# Altium schematic symbol library MYS-AltiumLib.SchLib: 59 symbols
Pins are listed as number, name and electrical type; pins without a type are passive.

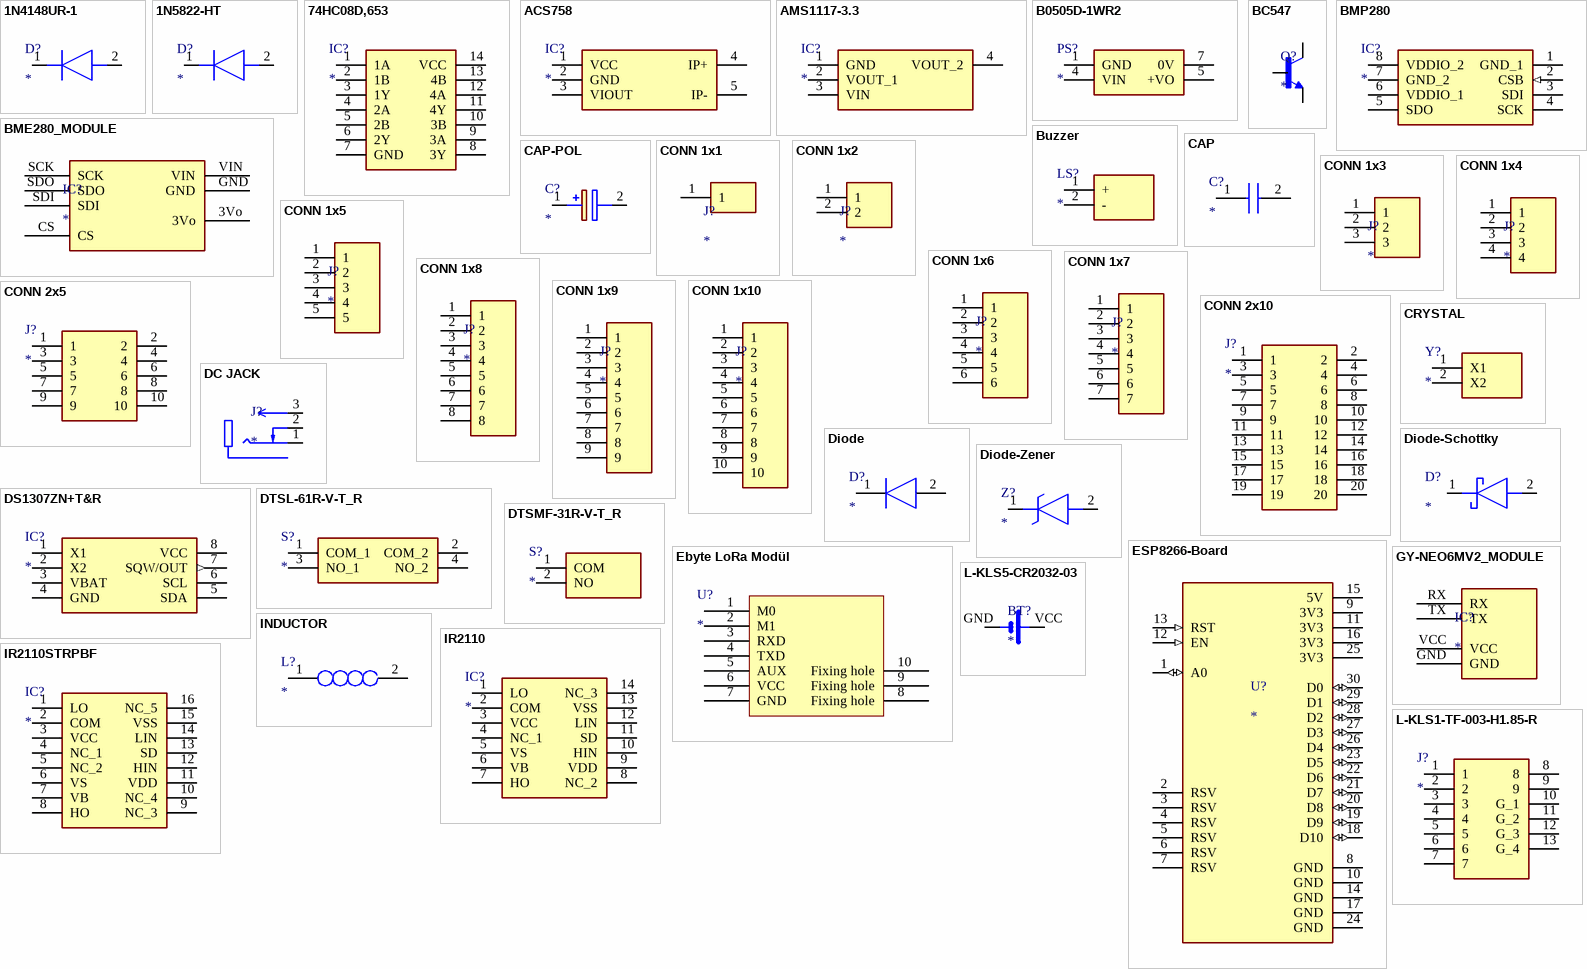
[diagram p0: symbols 1N4148UR-1 to L-KLS5-CR2032-03]

## 1N4148UR-1
designator D?
Diode; Manufacturer_Name: Microsemi Corporation; Manufacturer_Part_Number: 1N4148UR-1; Datasheet Link: https://www.microsemi.com/document-portal/doc_download/125215-lds-0281-1-datasheet; Height: 1.7mm; Mouser Part Number: 494-1N4148UR-1; Mouser Price/Stock: https://www.mouser.co.uk/ProductDetail/Microchip-Microsemi/1N4148UR-1/?qs=%252BRKXB2WKlSdXiNZTe6I9fg%3D%3D; Arrow Part Number: 1N4148UR-1; Arrow Price/Stock: https://www.arrow.com/en/products/1n4148ur-1/microsemi
footprint 1N4148UR1
pins: 1 K, 2 A

## 1N5822-HT
designator D?
Diode; Manufacturer_Name: HY Electronic Corp; Manufacturer_Part_Number: 1N5822; Datasheet Link: https://docs.rs-online.com/7b99/0900766b814bbef7.pdf
footprint DIOAD3020W130L900D530
pins: 1 K, 2 A

## 74HC08D,653
designator IC?
Integrated Circuit; Manufacturer_Name: NXP; Manufacturer_Part_Number: 74HC08D,653; Description: IC GATE AND 4CH 2-INP 14-SO; Datasheet Link: https://www.mouser.co.za/datasheet/2/916/74HC_HCT08-2937369.pdf; Height: 1.75mm
footprint SOIC127P600X175-14N
pins: 1 1A, 2 1B, 3 1Y, 4 2A, 5 2B, 6 2Y, 7 GND, 8 3Y, 9 3A, 10 3B, 11 4Y, 12 4A, 13 4B, 14 VCC

## ACS758
designator IC?
Integrated Circuit
footprint ACS758
pins: 1 VCC, 2 GND, 3 VIOUT, 4 IP+, 5 IP-

## AMS1117-3.3
designator IC?
Integrated Circuit; Manufacturer_Name: Advanced Monolithic Systems; Manufacturer_Part_Number: AMS1117-3.3; Datasheet Link: http://www.advanced-monolithic.com/pdf/ds1117.pdf; Height: 1.8mm
footprint SOT-223
pins: 1 GND, 2 VOUT_1, 3 VIN, 4 VOUT_2

## B0505D-1WR2
designator PS?
Power Supply; Manufacturer_Name: Mornsun; Manufacturer_Part_Number: B0505D-1WR2; Description: DC/DC Unregulated Power Supply Module,1W isolated DC-DC with Fixed Input Voltage; Datasheet Link: https://www.mornsun-power.com/public/uploads/pdf/B_D-1WR2.pdf; Height: 8.45mm
footprint B0505D1WR2
pins: 1 GND, 4 VIN, 5 +VO, 7 0V

## BC547
designator Q?
Bipolar (BJT) Transistor NPN 45 V 100 mA 300MHz 625 mW Through Hole TO-92 (TO-226); MF: ON Semiconductor; MP: BC547B; Availability: In Stock; Price: None; SnapEDA_Link: https://www.snapeda.com/parts/BC547B/Onsemi/view-part/?ref=snap; Purchase-URL: https://pricing.snapeda.com/search/part/BC547B/?ref=eda; Value: *; Check_prices: https://www.snapeda.com/parts/BC547B/Onsemi/view-part/?ref=eda; Package: TO-92-3 ON Semiconductor
footprint TO92250P510H770-3
pins: 1 C, 2 B, 3 E

## BME280_MODULE
designator IC?
footprint BME280_MODULE
pins: 3Vo, CS, GND, SCK, SDI, SDO, VIN

## BMP280
designator IC?
Integrated Circuit; Manufacturer_Name: Bosch Sensortec; Manufacturer_Part_Number: bmp280; Datasheet Link: https://datasheet.datasheetarchive.com/originals/distributors/DKDS-24/462913.pdf; Mouser Part Number: 262-BMP280; Mouser Price/Stock: https://www.mouser.co.uk/ProductDetail/Bosch-Sensortec/BMP280?qs=QhAb4EtQfbUP9Z%252BCHM3Wyg%3D%3D; Arrow Part Number: BMP280; Arrow Price/Stock: https://www.arrow.com/en/products/bmp280/bosch
footprint BMP280
pins: 1 GND_1 (power), 2 CSB (in), 3 SDI, 4 SCK, 5 SDO, 6 VDDIO_1 (power), 7 GND_2 (power), 8 VDDIO_2 (power)

## Buzzer
designator LS?
Loudspeaker or Buzzer
footprint PKMCS
footprint BUZZER_7.5P
pins: 1 +, 2 -

## CAP
designator C?
Capacitor
footprint CAP_0603
footprint CAP_0805
footprint CAP_FILM_22.5
pins: 1, 2

## CAP-POL
designator C?
Capacitor Polarised
footprint CAPP_Lytic_B_4.3
footprint CAPP_Lytic_C_5.3
footprint CAPP_Lytic_D_6.6
footprint CAPP_Lytic_D8_6.6
footprint CAPP_Lytic_F_8.3
footprint CAPP_Lytic_G_10.3
footprint CAPP_25_THT
pins: 1 +, 2 -

## CONN 1x1
designator J?
Connector
footprint CONN_1x1_2.54_THT
footprint CONN_1x1_5.08_THT
pins: 1

## CONN 1x2
designator J?
Connector
footprint CONN_1x2_2.54_THT
footprint CONN_1x2_5.08_THT
footprint WF_2RB
pins: 1, 2

## CONN 1x3
designator J?
Connector
footprint CONN_1x3_2.54_THT
footprint CONN_1x3_5.08_THT
footprint WF_3RB
pins: 1, 2, 3

## CONN 1x4
designator J?
Connector
footprint CONN_1x4_2.54_THT
footprint CONN_1x4_5.08_THT
footprint WF_4RB
footprint WF_4
pins: 1, 2, 3, 4

## CONN 1x5
designator J?
Connector
footprint CONN_1x5_2.54_THT
footprint CONN_1x5_5.08_THT
footprint WF_5RB
pins: 1, 2, 3, 4, 5

## CONN 1x6
designator J?
Connector
footprint CONN_1x6_2.54_THT
footprint CONN_1x6_5.08_THT
footprint WF_6RB
pins: 1, 2, 3, 4, 5, 6

## CONN 1x7
designator J?
Connector
footprint CONN_1x7_2.54_THT
footprint CONN_1x7_5.08_THT
footprint WF_7RB
pins: 1, 2, 3, 4, 5, 6, 7

## CONN 1x8
designator J?
Connector
footprint CONN_1x8_2.54_THT
footprint CONN_1x8_5.08_THT
footprint WF_8RB
pins: 1, 2, 3, 4, 5, 6, 7, 8

## CONN 1x9
designator J?
Connector
footprint CONN_1x9_2.54_THT
footprint CONN_1x9_5.08_THT
footprint WF_9RB
pins: 1, 2, 3, 4, 5, 6, 7, 8, 9

## CONN 1x10
designator J?
Connector
footprint CONN_1x10_2.54_THT
footprint CONN_1x10_5.08_THT
footprint WF_10RB
pins: 1, 2, 3, 4, 5, 6, 7, 8, 9, 10

## CONN 2x5
designator J?
Connector
footprint CONN_BOX_2x5_2.54_THT
footprint CONN_BOX_2x5_1.27_90_THT
pins: 1, 2, 3, 4, 5, 6, 7, 8, 9, 10

## CONN 2x10
designator J?
Connector
footprint CONN_BOX_2x10_2.54_THT
footprint CONN_BOX_2x10_2.54_90_THT
pins: 1, 2, 3, 4, 5, 6, 7, 8, 9, 10, 11, 12, 13, 14, 15, 16, 17, 18, 19, 20

## CRYSTAL
designator Y?
Crystal or Oscillator
footprint HC-49S SMD
footprint HC-49S THT
footprint 2-SMD RT3215
pins: 1 X1, 2 X2

## DC JACK
designator J?
CONN POWER JACK SOLDER; MP: RAPC742X; Package: None; Price: None; Value: *; Availability: Unavailable
footprint DC JACK
pins: 1 SLEEVE, 2 SHUNT, 3 TIP

## Diode
designator D?
Diode
footprint SOD-123
footprint DO41
footprint DO214AC (SMA)
footprint DO214AB (SMC)
pins: 1 K, 2 A

## Diode-Schottky
designator D?
Schottky Diode
footprint SOD-123
footprint DO214AB (SMC)
pins: 1 K, 2 A

## Diode-Zener
designator Z?
Zener Diode
footprint SOD-80 (MINIMELF)
pins: 1 K, 2 A

## DS1307ZN+T&R
designator IC?
Integrated Circuit; Manufacturer_Name: Maxim Integrated; Manufacturer_Part_Number: DS1307ZN+T&R; Datasheet Link: https://datasheets.maximintegrated.com/en/ds/DS1307.pdf; Height: 1.75mm; Mouser Part Number: 700-DS1307ZNT&R; Mouser Price/Stock: https://www.mouser.co.uk/ProductDetail/Maxim-Integrated/DS1307ZN%2bTR?qs=0Y9aZN%252BMVCXXDgd6v9FkqQ%3D%3D
footprint SO-8
pins: 1 X1, 2 X2, 3 VBAT, 4 GND (power), 5 SDA, 6 SCL, 7 SQW/OUT (out), 8 VCC (power)

## DTSL-61R-V-T_R
designator S?
Switch; Manufacturer_Name: Diptronics; Manufacturer_Part_Number: DTSL-61R-V-T/R; Datasheet Link: http://www.dip.com.tw/en/en-product-information/en-switch004/item/2455-dts-g-l-6-dts-g-f-6; Height: 2.5mm; Mouser Part Number: 113-DTSL61RVTR; Mouser Price/Stock: https://www.mouser.co.uk/ProductDetail/Diptronics/DTSL-61R-V-T-R/?qs=MLItCLRbWsyShc0V4OSmOQ%3D%3D
footprint DTSL61RVTR
pins: 1 COM_1, 2 COM_2, 3 NO_1, 4 NO_2

## DTSMF-31R-V-T_R
designator S?
Switch; Manufacturer_Name: Diptronics; Manufacturer_Part_Number: DTSMF-31R-V-T/R; Datasheet Link: http://www.dip.com.tw/en/en-product-information/en-switch004/item/download/2482_e206d9b4ca91b6d07db9f3a2c47b5e9a; Height: 4.3mm; Mouser Part Number: 113-DTSMF31RVTR; Mouser Price/Stock: https://www.mouser.co.uk/ProductDetail/Diptronics/DTSMF-31R-V-T-R?qs=MLItCLRbWsxEEgXWWt%2FX0w%3D%3D
footprint DTSMF31RVTR
pins: 1 COM, 2 NO

## Ebyte LoRa Modül
designator U?
footprint Ebyte LoRa Modül
pins: 1 M0, 2 M1, 3 RXD, 4 TXD, 5 AUX, 6 VCC, 7 GND, 8 Fixing hole "Fixing hole, bağlantı yapılmayacak.", 9 Fixing hole "Fixing hole, bağlantı yapılmayacak.", 10 Fixing hole "Fixing hole, bağlantı yapılmayacak."

## ESP8266-Board
designator U?
NodeMCU V2 Lua Based ESP8266 Development Board; MF: Velleman; MP: VMA107; Check_prices: https://www.snapeda.com/parts/VMA107/Velleman/view-part/?ref=eda; SnapEDA_Link: https://www.snapeda.com/parts/VMA107/Velleman/view-part/?ref=snap; Availability: Not in stock; Price: None; Value: *; Package: None
footprint ESP8266-Board
pins: 1 A0 (io), 2 RSV, 3 RSV, 4 RSV, 5 RSV, 6 RSV, 7 RSV, 8 GND (power), 9 3V3 (power), 10 GND (power), 11 3V3 (power), 12 EN (in), 13 RST (in), 14 GND (power), 15 5V (power), 16 3V3 (power), 17 GND (power), 18 D10 (io), 19 D9 (io), 20 D8 (io), 21 D7 (io), 22 D6 (io), 23 D5 (io), 24 GND (power), 25 3V3 (power), 26 D4 (io), 27 D3 (io), 28 D2 (io), 29 D1 (io), 30 D0 (io)

## GY-NEO6MV2_MODULE
designator IC?
footprint GY-NEO6MV2_MODULE
pins: GND, RX, TX, VCC

## INDUCTOR
designator L?
Inductor
footprint IND_10x10_SMD (Precision Wire Wound Inductor, 2-Leads, Body 10,00x10,00mm, IPC Medium Density)
footprint IND_12X12_SMD
pins: 1, 2

## IR2110
designator IC?
Integrated Circuit; Manufacturer_Name: Infineon; Manufacturer_Part_Number: IR2110; Datasheet Link: https://www.infineon.com/dgdl/ir2110.pdf?fileId=5546d462533600a4015355c80333167e; Height: 5.33mm
footprint DIP762W56P254L1930H533Q14N
pins: 1 LO, 2 COM, 3 VCC, 4 NC_1, 5 VS, 6 VB, 7 HO, 8 NC_2, 9 VDD, 10 HIN, 11 SD, 12 LIN, 13 VSS, 14 NC_3

## IR2110STRPBF
designator IC?
Integrated Circuit; Manufacturer_Name: Infineon; Manufacturer_Part_Number: IR2110STRPBF; Description: Infineon IR2110STRPBF Dual High and Low Side MOSFET Power Driver; Datasheet Link: https://www.infineon.com/cms/en/product/power/gate-driver-ics/?; Height: 2.65mm; Mouser Part Number: 942-IR2110STRPBF; Mouser Price/Stock: https://www.mouser.co.uk/ProductDetail/Infineon-IR/IR2110STRPBF?qs=2r01AXMCG3P4pNuJUqFzxg%3D%3D; Arrow Part Number: IR2110STRPBF; Arrow Price/Stock: https://www.arrow.com/en/products/ir2110strpbf/infineon-technologies-ag?region=nac
footprint SOIC127P1032X265-16N
pins: 1 LO, 2 COM, 3 VCC, 4 NC_1, 5 NC_2, 6 VS, 7 VB, 8 HO, 9 NC_3, 10 NC_4, 11 VDD, 12 HIN, 13 SD, 14 LIN, 15 VSS, 16 NC_5

## L-KLS1-TF-003-H1.85-R
designator J?
Connector; Manufacturer_Name: KLS Electronic; Manufacturer_Part_Number: L-KLS1-TF-003-H1.85-R; Datasheet Link: https://img.ozdisan.com/ETicaret_Dosya/476392_7149645.pdf
footprint L-KLS1-TF-003-H1.85-R
pins: 1, 2, 3, 4, 5, 6, 7, 8, 9, 10 G_1, 11 G_2, 12 G_3, 13 G_4

## L-KLS5-CR2032-03
designator BT?
Battery Holder
footprint L-KLS5-CR2032-03
pins: GND NEG, VCC POS

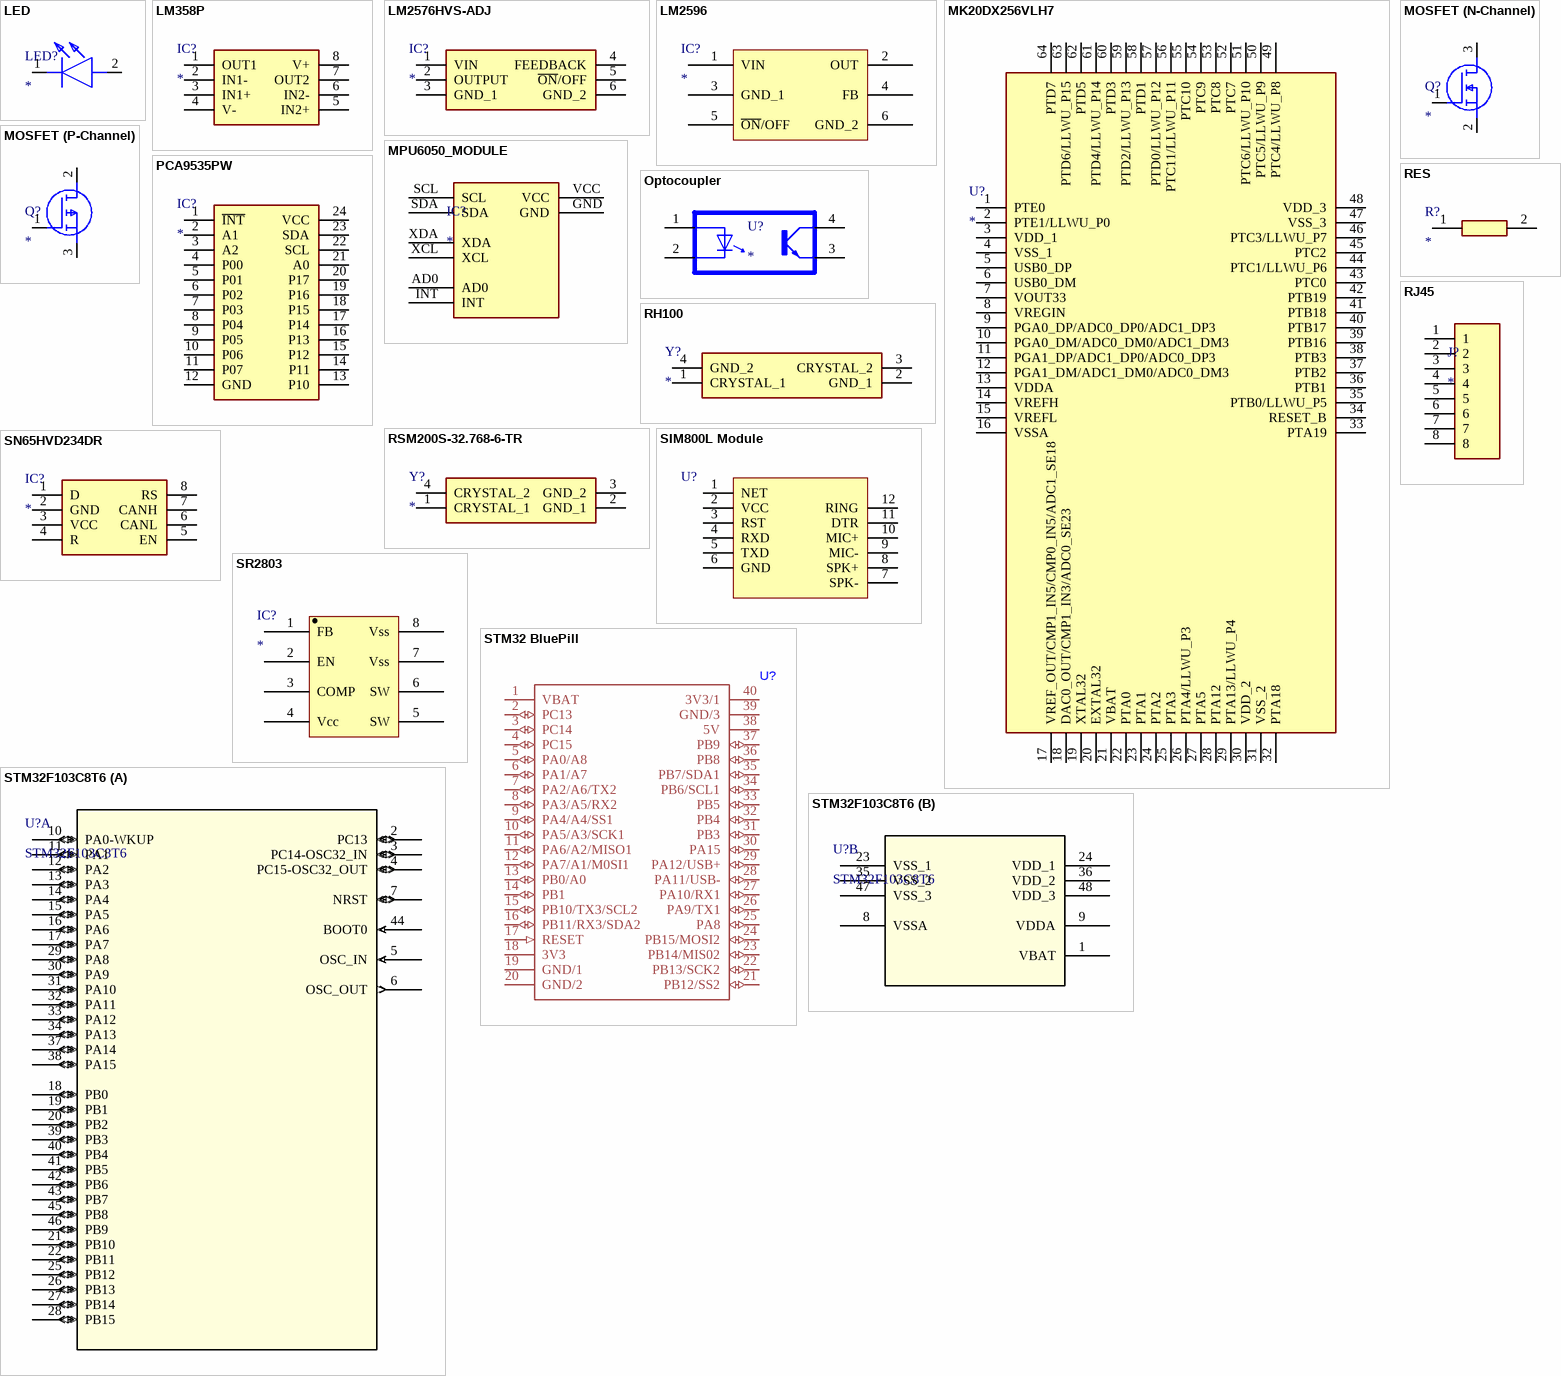
[diagram p1: symbols LED to STM32F103C8T6]

## LED
designator LED?
LED
footprint LED0603
pins: 1 K, 2 A

## LM358P
designator IC?
Integrated Circuit; Manufacturer_Name: Texas Instruments; Manufacturer_Part_Number: LM358P; Datasheet Link: http://www.ti.com/lit/ds/symlink/lm358a.pdf; Height: 5.08mm; Mouser Part Number: 595-LM358P; Mouser Price/Stock: https://www.mouser.co.uk/ProductDetail/Texas-Instruments/LM358P?qs=X1HXWTtiZ0QtOTT8%252BVnsyw%3D%3D; Arrow Part Number: LM358P; Arrow Price/Stock: https://www.arrow.com/en/products/lm358p/texas-instruments?region=nac
footprint DIP794W53P254L959H508Q8N
pins: 1 OUT1, 2 IN1-, 3 IN1+, 4 V-, 5 IN2+, 6 IN2-, 7 OUT2, 8 V+

## LM2576HVS-ADJ
designator IC?
Integrated Circuit; Manufacturer_Name: Texas Instruments; Manufacturer_Part_Number: LM2576HVS-ADJ; Datasheet Link: https://componentsearchengine.com/Datasheets/2/LM2576HVS-ADJ.pdf; Mouser Part Number: 926-LM2576HVS-ADJ; Mouser Price/Stock: https://www.mouser.co.uk/ProductDetail/Texas-Instruments/LM2576HVS-ADJ?qs=X1J7HmVL2ZFnoIj2qivFKg%3D%3D; Arrow Part Number: LM2576HVS-ADJ; Arrow Price/Stock: https://www.arrow.com/en/products/lm2576hvs-adj/texas-instruments?region=nac
footprint KTT0005B
pins: 1 VIN, 2 OUTPUT, 3 GND_1, 4 FEEDBACK, 5 ~{ON}/OFF, 6 GND_2

## LM2596
designator IC?
Integrated Circuit
footprint TO263-5 (D2PAK-5)
pins: 1 VIN, 2 OUT, 3 GND_1, 4 FB, 5 ~{ON}/OFF, 6 GND_2

## MK20DX256VLH7
designator U?
Microcontroller; Manufacturer_Name: NXP; Manufacturer_Part_Number: MK20DX256VLH7; Datasheet Link: http://www.nxp.com/docs/en/data-sheet/K20P64M72SF1.pdf; Height: 1.6mm; Mouser Part Number: 841-MK20DX256VLH7; Mouser Price/Stock: https://www.mouser.co.uk/ProductDetail/NXP-Semiconductors/MK20DX256VLH7?qs=b%252B6ZnhyoAL%2FVf1Ewi0iu9Q%3D%3D; Arrow Part Number: MK20DX256VLH7; Arrow Price/Stock: https://www.arrow.com/en/products/mk20dx256vlh7/nxp-semiconductors
footprint LQFP64
pins: 1 PTE0, 2 PTE1/LLWU_P0, 3 VDD_1, 4 VSS_1, 5 USB0_DP, 6 USB0_DM, 7 VOUT33, 8 VREGIN, 9 PGA0_DP/ADC0_DP0/ADC1_DP3, 10 PGA0_DM/ADC0_DM0/ADC1_DM3, 11 PGA1_DP/ADC1_DP0/ADC0_DP3, 12 PGA1_DM/ADC1_DM0/ADC0_DM3, 13 VDDA, 14 VREFH, 15 VREFL, 16 VSSA, 17 VREF_OUT/CMP1_IN5/CMP0_IN5/ADC1_SE18, 18 DAC0_OUT/CMP1_IN3/ADC0_SE23, 19 XTAL32, 20 EXTAL32, 21 VBAT, 22 PTA0, 23 PTA1, 24 PTA2, 25 PTA3, 26 PTA4/LLWU_P3, 27 PTA5, 28 PTA12, 29 PTA13/LLWU_P4, 30 VDD_2, 31 VSS_2, 32 PTA18, 33 PTA19, 34 RESET_B, 35 PTB0/LLWU_P5, 36 PTB1, 37 PTB2, 38 PTB3, 39 PTB16, 40 PTB17, 41 PTB18, 42 PTB19, 43 PTC0, 44 PTC1/LLWU_P6, 45 PTC2, 46 PTC3/LLWU_P7, 47 VSS_3, 48 VDD_3, 49 PTC4/LLWU_P8, 50 PTC5/LLWU_P9, 51 PTC6/LLWU_P10, 52 PTC7, 53 PTC8, 54 PTC9, 55 PTC10, 56 PTC11/LLWU_P11, 57 PTD0/LLWU_P12, 58 PTD1, 59 PTD2/LLWU_P13, 60 PTD3, 61 PTD4/LLWU_P14, 62 PTD5, 63 PTD6/LLWU_P15, 64 PTD7

## MOSFET (N-Channel)
designator Q?
MOSFET
footprint SOT23-3
footprint TO247AC
pins: 1 G, 2 S, 3 D

## MOSFET (P-Channel)
designator Q?
MOSFET
footprint SOT23-3
pins: 1 G, 2 D, 3 S

## MPU6050_MODULE
designator IC?
footprint MPU6050_MODULE
pins: AD0, GND, INT, SCL, SDA, VCC, XCL, XDA

## Optocoupler
designator U?
Optocoupler
footprint LTV-817S-TA1
pins: 1 A, 2 C, 3 E, 4 CO

## PCA9535PW
designator IC?
Integrated Circuit; Manufacturer_Name: Texas Instruments; Manufacturer_Part_Number: PCA9535PW; Datasheet Link: https://www.ti.com/lit/ds/symlink/pca9535.pdf?ts=1618049583563&ref_url=https%253A%252F%252Fwww.ti.com%252Fproduct%252FPCA9535; Height: 1.2mm; Mouser Part Number: 595-PCA9535PW; Mouser Price/Stock: https://www.mouser.co.uk/ProductDetail/Texas-Instruments/PCA9535PW?qs=wgAEGBTxy7l6f73qRitu2A%3D%3D; Arrow Part Number: PCA9535PW; Arrow Price/Stock: https://www.arrow.com/en/products/pca9535pw/texas-instruments?region=nac
footprint TSSOP24
pins: 1 ~{INT}, 2 A1, 3 A2, 4 P00, 5 P01, 6 P02, 7 P03, 8 P04, 9 P05, 10 P06, 11 P07, 12 GND, 13 P10, 14 P11, 15 P12, 16 P13, 17 P14, 18 P15, 19 P16, 20 P17, 21 A0, 22 SCL, 23 SDA, 24 VCC

## RES
designator R?
Resistor
footprint RES_0603
footprint RES_0805
footprint RES_1206
pins: 1, 2

## RH100
designator Y?
Crystal or Oscillator; Manufacturer_Name: RALTRON; Manufacturer_Part_Number: RH100; Height: 0.8mm
footprint 4-SMD RH100
pins: 1 CRYSTAL_1, 2 GND_1, 3 CRYSTAL_2, 4 GND_2

## RJ45
designator J?
Connector
footprint 8P8C (RJ45)
pins: 1, 2, 3, 4, 5, 6, 7, 8

## RSM200S-32.768-6-TR
designator Y?
Crystal or Oscillator; Manufacturer_Name: RALTRON; Manufacturer_Part_Number: RSM200S-32.768-6-TR; Datasheet Link: https://datasheet.datasheetarchive.com/originals/distributors/Datasheets_SAMA/1bf0ca20367e721dc2e5057e42b37f2f.pdf; Height: 2.5mm
footprint RSM200S327686TR
pins: 1 CRYSTAL_1, 2 GND_1, 3 GND_2, 4 CRYSTAL_2

## SIM800L Module
designator U?
Integrated Circuit
footprint SIM800L-MODULE
pins: 1 NET, 2 VCC, 3 RST, 4 RXD, 5 TXD, 6 GND, 7 SPK-, 8 SPK+, 9 MIC-, 10 MIC+, 11 DTR, 12 RING

## SN65HVD234DR
designator IC?
Integrated Circuit; Manufacturer_Name: Texas Instruments; Manufacturer_Part_Number: SN65HVD234DR; Datasheet Link: http://www.ti.com/lit/gpn/sn65hvd234; Height: 1.75mm; Mouser Part Number: 595-SN65HVD234DR; Mouser Price/Stock: https://www.mouser.co.uk/ProductDetail/Texas-Instruments/SN65HVD234DR?qs=QViXGNcIEAtzI7GJEWw0wA%3D%3D; Arrow Part Number: SN65HVD234DR; Arrow Price/Stock: https://www.arrow.com/en/products/sn65hvd234dr/texas-instruments?region=nac
footprint SOIC-8
pins: 1 D, 2 GND, 3 VCC, 4 R, 5 EN, 6 CANL, 7 CANH, 8 RS

## SR2803
designator IC?
Integrated Circuit
footprint SOP-8 (SOP, 8-Leads, Body 4,90x3,90mm, Pitch 1,27mm, IPC Medium Density)
pins: 1 FB "Feedback pin", 2 EN "Power-on/off pin H: normal operation (Step-down) L: Step-down operation stopped (All circuits deactivated)", 3 COMP "Compensation pin", 4 Vcc "IC power supply pin", 5 SW "L: Step-down operation stopped (All circuits deactivated)", 6 SW "Switch pin. Connect external inductor here.", 7 Vss "GND pin", 8 Vss "GND pin"
text: .

## STM32 BluePill
designator U?
Microcontroller
footprint STM32 BluePill
pins: 1 VBAT (power), 2 PC13 (io), 3 PC14 (io), 4 PC15 (io), 5 PA0/A8 (io), 6 PA1/A7 (io), 7 PA2/A6/TX2 (io), 8 PA3/A5/RX2 (io), 9 PA4/A4/SS1 (io), 10 PA5/A3/SCK1 (io), 11 PA6/A2/MISO1 (io), 12 PA7/A1/M0SI1 (io), 13 PB0/A0 (io), 14 PB1 (io), 15 PB10/TX3/SCL2 (io), 16 PB11/RX3/SDA2 (io), 17 RESET (in), 18 3V3 (power), 19 GND/1 (power), 20 GND/2 (power), 21 PB12/SS2 (io), 22 PB13/SCK2 (io), 23 PB14/MIS02 (io), 24 PB15/MOSI2 (io), 25 PA8 (io), 26 PA9/TX1 (io), 27 PA10/RX1 (io), 28 PA11/USB- (io), 29 PA12/USB+ (io), 30 PA15 (io), 31 PB3 (io), 32 PB4 (io), 33 PB5 (io), 34 PB6/SCL1 (io), 35 PB7/SDA1 (io), 36 PB8 (io), 37 PB9 (io), 38 5V (power), 39 GND/3 (power), 40 3V3/1 (power)

## STM32F103C8T6
designator U?
Microcontroller; Mfr_Name: STMicroelectronics; Copyright: Copyright (C) 2021 Ultra Librarian. All rights reserved.; Manufacturer_Part_Number: STM32F103C8T6; RefDes: RefDes; Type: DEV
footprint LQFP48
part A pins: 2 PC13 (io), 3 PC14-OSC32_IN (io), 4 PC15-OSC32_OUT (io), 5 OSC_IN (in), 6 OSC_OUT (out), 7 NRST (io), 10 PA0-WKUP (io), 11 PA1 (io), 12 PA2 (io), 13 PA3 (io), 14 PA4 (io), 15 PA5 (io), 16 PA6 (io), 17 PA7 (io), 18 PB0 (io), 19 PB1 (io), 20 PB2 (io), 21 PB10 (io), 22 PB11 (io), 25 PB12 (io), 26 PB13 (io), 27 PB14 (io), 28 PB15 (io), 29 PA8 (io), 30 PA9 (io), 31 PA10 (io), 32 PA11 (io), 33 PA12 (io), 34 PA13 (io), 37 PA14 (io), 38 PA15 (io), 39 PB3 (io), 40 PB4 (io), 41 PB5 (io), 42 PB6 (io), 43 PB7 (io), 44 BOOT0 (in), 45 PB8 (io), 46 PB9 (io)
part B pins: 1 VBAT (power), 8 VSSA (power), 9 VDDA (power), 23 VSS_1 (power), 24 VDD_1 (power), 35 VSS_2 (power), 36 VDD_2 (power), 47 VSS_3 (power), 48 VDD_3 (power)